# EAGLE library part PH2X04 (library Misaka-Connector)
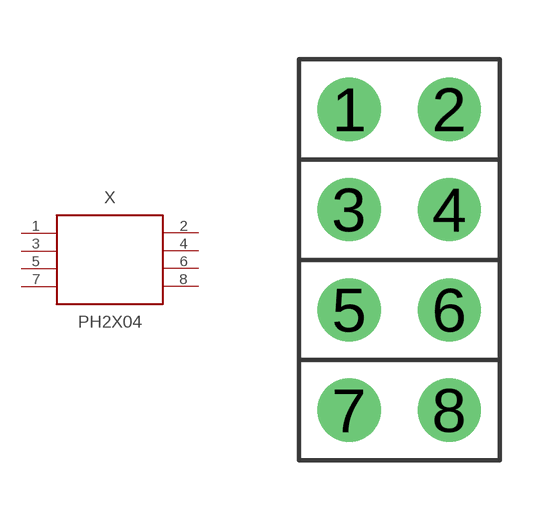
[diagram p7: symbol with the pads of PH2X04; footprint PH2X04]

Designator prefix X

## PH2X04  [PH2X04]
1  1  pas
2  2  pas
3  3  pas
4  4  pas
5  5  pas
6  6  pas
7  7  pas
8  8  pas

## Footprint PH2X04 (pad centres in mm)
drill 1 pad 1.6: 1 -1.27,3.81; 2 1.27,3.81; 3 -1.27,1.27; 4 1.27,1.27; 5 -1.27,-1.27; 6 1.27,-1.27; 7 -1.27,-3.81; 8 1.27,-3.81